# EAGLE library part TPS63021 (library konekt)
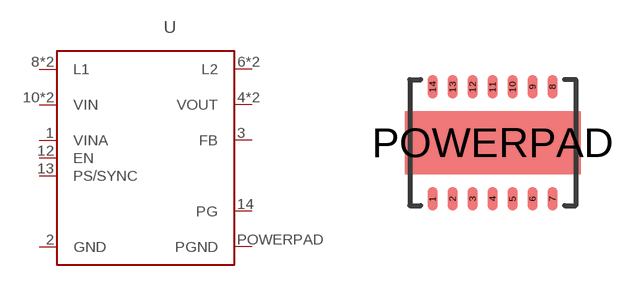
[diagram p5: symbol with the pads of QFN-14-POWERPAD3X4DSJ; footprint QFN-14-POWERPAD3X4DSJ]

Designator prefix U

## TPS63021 (MFG: TI; MPN: TPS63021DSJ; PACKAGE: QFN_14_3x4)  [QFN-14-POWERPAD3X4DSJ]
1  VINA
2  GND
3  FB
4  VOUT
5  VOUT
6  L2
7  L2
8  L1
9  L1
10  VIN
11  VIN
12  EN
13  PS/SYNC
14  PG
POWERPAD  PGND

## Footprint QFN-14-POWERPAD3X4DSJ (pad centres in mm)
smd 0.24 x 0.6: 1 -1.5,-1.4; 2 -1,-1.4; 3 -0.5,-1.4; 4 0,-1.4; 5 0.5,-1.4; 6 1,-1.4; 7 1.5,-1.4; 8 1.5,1.4; 9 1,1.4; 10 0.5,1.4; 11 0,1.4; 12 -0.5,1.4; 13 -1,1.4; 14 -1.5,1.4
smd 4.4 x 1.58: POWERPAD 0,0